# EAGLE library part HIROSE_DM3BT-DSF-PEJS (library Upverter Library)
Right Angle Surface Mount Micro SD Card Connector, with Solder Termination
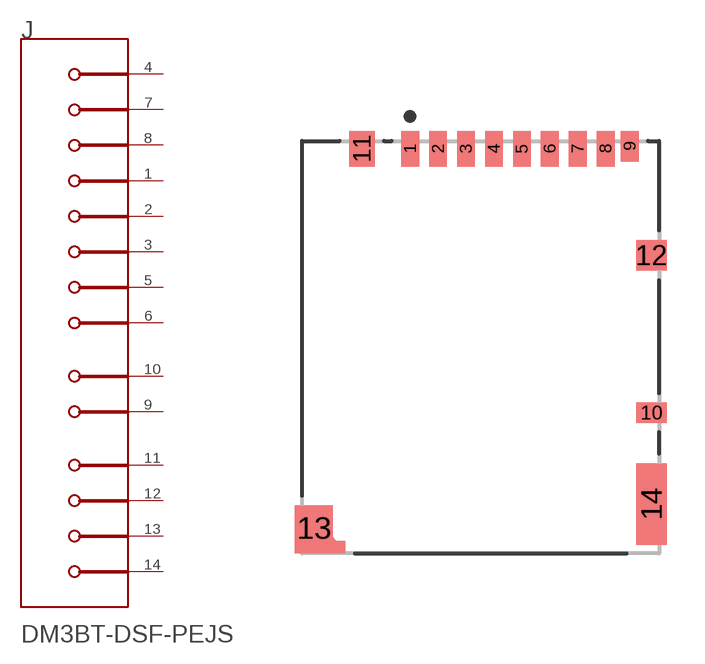
[diagram p0: symbol with the pads of HIROSE_DM3BT-DSF-PEJS_0; footprint HIROSE_DM3BT-DSF-PEJS_0]

Designator prefix J

## HIROSE_DM3BT-DSF-PEJSHIROSE_DM3BT-DSF-PEJS_0_0 (MF: HIROSE; MPN: DM3BT-DSF-PEJS; centroid_not_specified: No; conn_orientation: Right Angle; contact_material: Gold; current_rating: 0.5A; datasheet: https://www.hirose.com/product/en/download_file/key_name/DM3/category/Catalog/doc_file_id/49662/?file_category_id=4&item_id=195&is_series=1; device_class_L1: Connectors; device_class_L2: Memory Connectors; device_class_L3: unset; digikey_description: CONN MICRO SD CARD PUSH-PUSH R/A; digikey_part_number: HR1942CT-ND; footprint_url: https://www.hirose.com/product/en/download_file/key_name/DM3BT-DSF-PEJS/category/Drawing%20(2D)/doc_file_id/44097/?file_category_id=6&item_id=06090029900&is_series=; height: 2.38mm; is_female: yes; lead_free: yes; memory_type: FLASH; mfg_package_ident: DM3BT-DSF-PEJS; mfg_package_ident_date: 0; mfg_package_ident_rev: 0; mouser_description: Memory Card Connectors MICRO SD CD CONN REV SMT PUSHPUSH; mouser_part_number: 798-DM3BT-DSF-PEJS; number_of_contacts: 8; package: CONN_SMT_MICROSD_13MM85_16MM05; prefix: J; rohs: yes; shielding: true; temperature_range_high: +85°C; temperature_range_low: -25°C; verification_version: 0.0.0.1; voltage_rating: 125V)  [HIROSE_DM3BT-DSF-PEJS_0]
1  DAT2
2  CD/DAT3
3  CMD  in
4  VDD  pwr
5  CLK  in
6  VSS  pwr
7  DAT0
8  DAT1
9  B  pas
10  A  pas
11  MNT_1  pas
12  MNT_2  pas
13  MNT_3  pas
14  MNT_4  pas

## Footprint HIROSE_DM3BT-DSF-PEJS_0 (pad centres in mm)
Right Angle Surface Mount Micro SD Card Connector, with Solder Termination
smd 0.7 x 1.4: 1 -2.775,7.825; 2 -1.675,7.825; 3 -0.575,7.825; 4 0.525,7.825; 5 1.625,7.825; 6 2.725,7.825; 7 3.825,7.825; 8 4.925,7.825
smd 0.7 x 1.2: 9 5.875,7.925
smd 1.2 x 0.8: 10 6.725,-2.575
smd 1 x 1.4: 11 -4.675,7.825
smd 1.2 x 1.2: 12 6.725,3.625
smd 1.311 x 1.311: 13 -6.553,-7.116
smd 1.2 x 3.2: 14 6.725,-6.175